# Altium schematic symbol library 1EDN7511B.SchLib: 1 symbol
Pins are listed as number, name and electrical type; pins without a type are passive.

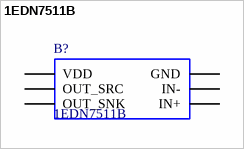
[diagram p0: symbol 1EDN7511B]

## 1EDN7511B
designator B?
footprint SOT95P280X145-6N
pins: ?1 VDD, ?2 OUT_SRC, ?3 OUT_SNK, ?4 GND, ?5 IN-, ?6 IN+